# EAGLE library part 2040002-1 (library 2040002-1)
Conn USB Type B RCP 5 POS 0.65mm Solder RA SMD 5 Terminal 1 Port T/R
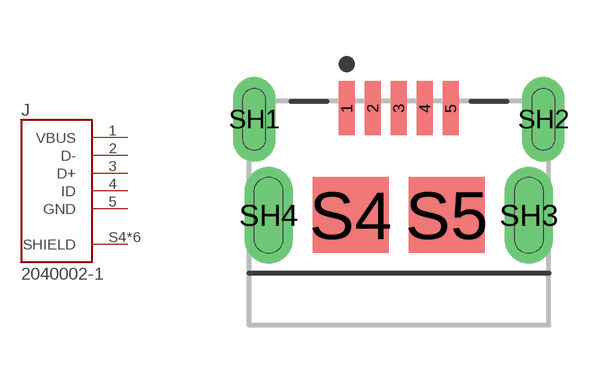
[diagram p0: symbol with the pads of TE_2040002-1; footprint TE_2040002-1]

Designator prefix J

## 2040002-1 (Availability: Unavailable; Centerline_Pitch: .65 mm[.025 in]; Comment: 2040002-1; Description: Conn Micro USB 2.0 Type B RCP 5 POS 0.65mm Solder RA SMD 5 Terminal 1 Port T/R; MF: TE Connectivity; MP: 2040002-1; Number_of_Positions: 5; Package: None; Price: None; Product_Type: Connector; TE_purchase_URL: https://www.te.com/usa-en/product-2040002-1.html?te_bu=Cor&te_type=disp&te_campaign=seda_glo_cor-seda-global-disp-prtnr-fy19-seda-model-bom-cta_sma-317_1&elqCampaignId=32493)  [TE_2040002-1]
1  VBUS  pwr
2  D-
3  D+
4  ID
5  GND  pwr
S4  SHIELD  pwr
S5  SHIELD  pwr
SH1  SHIELD  pwr
SH2  SHIELD  pwr
SH3  SHIELD  pwr
SH4  SHIELD  pwr

## Footprint TE_2040002-1 (pad centres in mm)
smd 0.4 x 1.35: 1 -1.3,2.675; 2 -0.65,2.675; 3 0,2.675; 4 0.65,2.675; 5 1.3,2.675
smd 1.9 x 1.9: S4 -1.2,0; S5 1.2,0
drill 0.56 long: SH1 -3.615,2.4; SH2 3.615,2.4
drill 0.71 long: SH3 3.255,0; SH4 -3.255,0